# EAGLE library part XBEE (library digi_xbee)
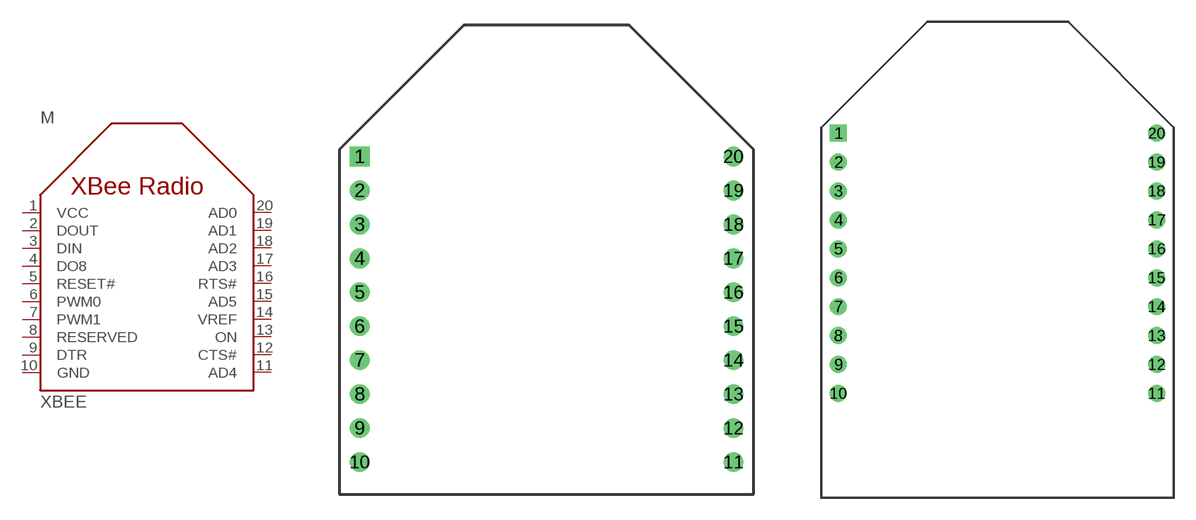
[diagram p0: symbol with the pads of XBEE; footprints XBEE, XBEE-PRO]

Designator prefix M

## XBEE  [XBEE]
1  VCC  pwr
2  DOUT  out
3  DIN  in
4  DO8  out
5  RESET#  in
6  PWM0  out
7  PWM1  out
8  RESERVED
9  DTR  in
10  GND  pwr
11  AD4
12  CTS#
13  ON  out
14  VREF  in
15  AD5
16  RTS#
17  AD3
18  AD2
19  AD1
20  AD0

## XBEE-PRO  [XBEE-PRO]
Pads as for XBEE

## Footprint XBEE (pad centres in mm)
drill 0.66 square: 1 -11,9
drill 0.66 round: 2 -11,7; 3 -11,5; 4 -11,3; 5 -11,1; 6 -11,-1; 7 -11,-3; 8 -11,-5; 9 -11,-7; 10 -11,-9; 11 11,-9; 12 11,-7; 13 11,-5; 14 11,-3; 15 11,-1; 16 11,1; 17 11,3; 18 11,5; 19 11,7; 20 11,9

## Footprint XBEE-PRO (pad centres in mm)
drill 0.66 square: 1 -11,9
drill 0.66 round: 2 -11,7; 3 -11,5; 4 -11,3; 5 -11,1; 6 -11,-1; 7 -11,-3; 8 -11,-5; 9 -11,-7; 10 -11,-9; 11 11,-9; 12 11,-7; 13 11,-5; 14 11,-3; 15 11,-1; 16 11,1; 17 11,3; 18 11,5; 19 11,7; 20 11,9